# Altium footprint library adafruit.PCBLIB: 643 footprints (part 40 of 41)
Each footprint in its own frame and in the unit in brackets; x right, y up, seen from the top. Pads: shape width x height; smd on the part's side, far side on the other; paste and mask are expansions set on the pad; w line width, h text height; cw(c..) or ccw(c..) is an arc to the next point about the centre after c.
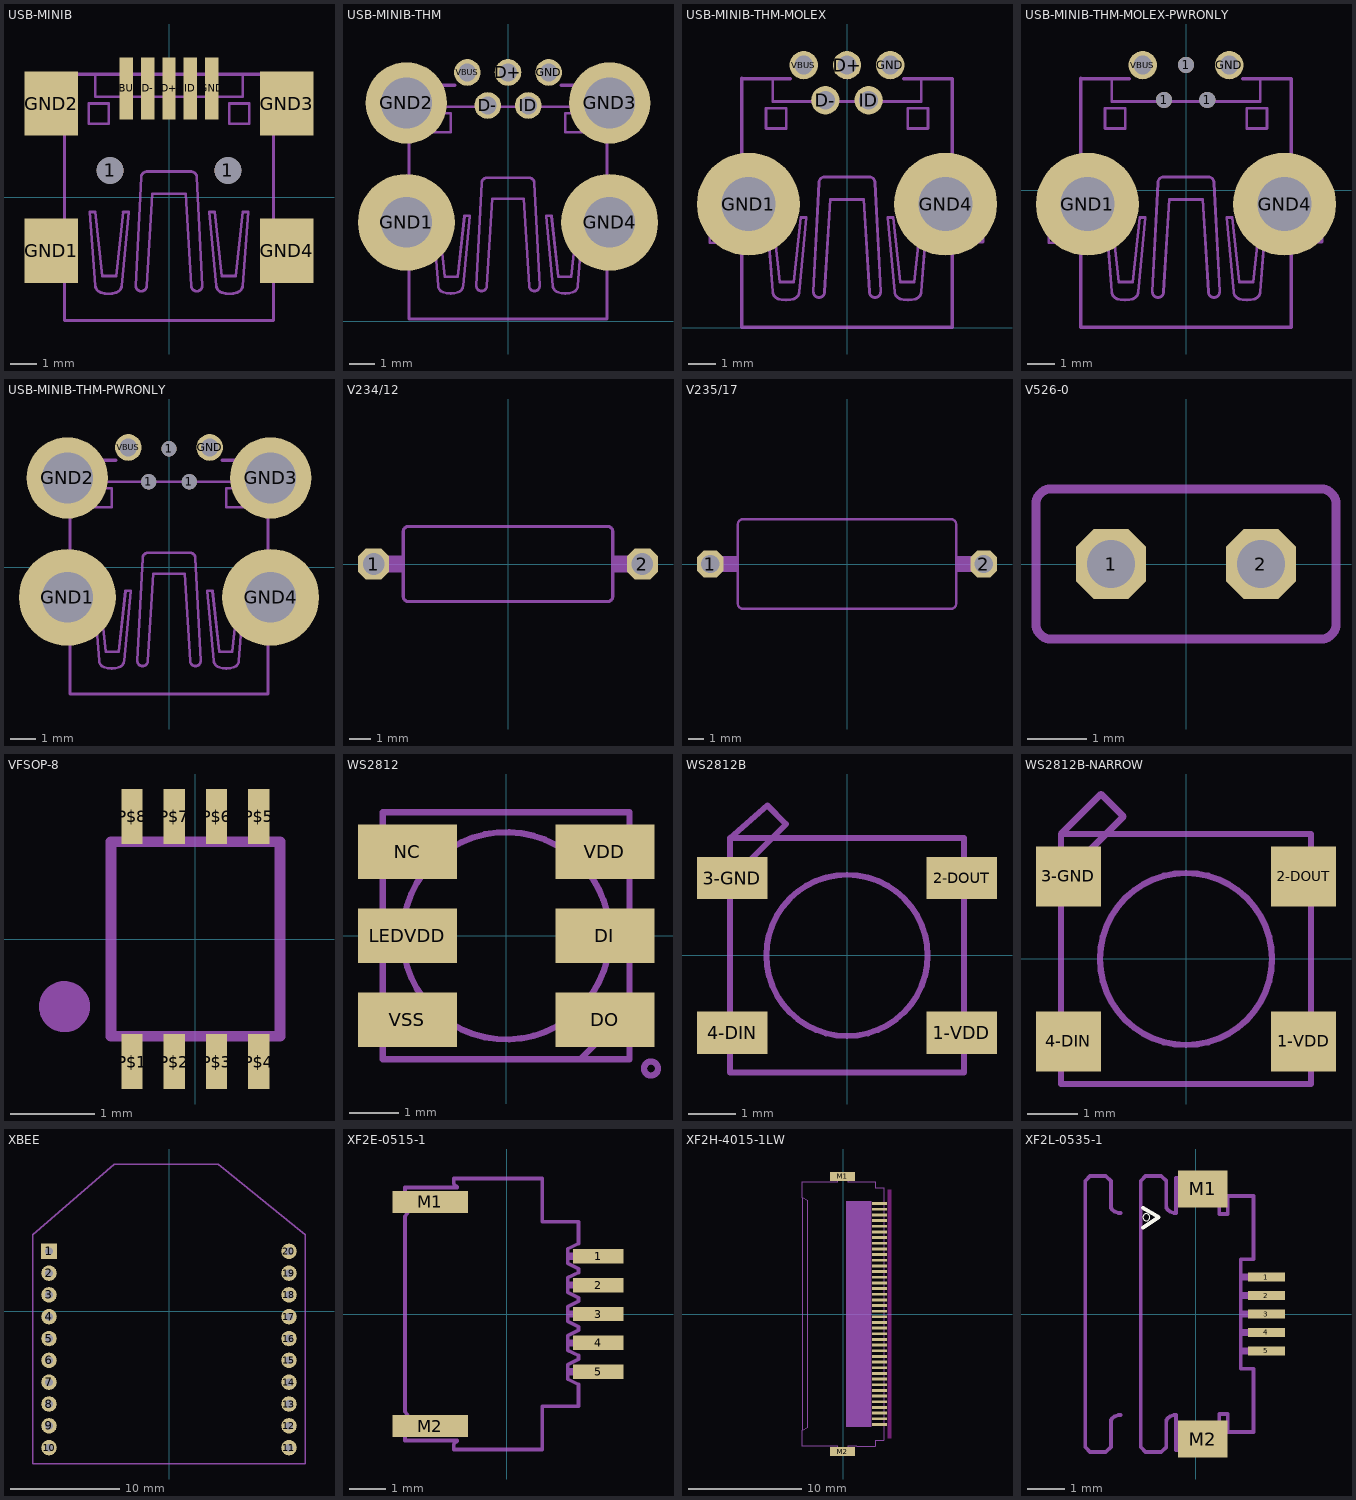
[diagram p39: the footprints below, top view; thin cyan lines are the x and y axes]

## USB-MINIB [mm]
pads (11):
  round 1 hole 1: 1(-2.2,1) 1(2.2,1)
  rect 0.5x2.308 smd: D+(0,4.064) D-(-0.8,4.064) GND(1.6,4.064) ID(0.8,4.064) VBUS(-1.6,4.064)
  rect 2x2.4 smd: GND1(-4.4,-2) GND2(-4.4,3.5) GND3(4.4,3.5) GND4(4.4,-2)
Mechanical 2:
  lines w0.127: -3.9,-4.6 3.9,-4.6 ; -3.9,-0.6 -3.9,2.1 ; -3.9,4.6 3.9,4.6 ; -3.2,4.6 -2.1,4.6 ; 2.1,4.6 3.2,4.6 ; 3.9,-0.6 3.9,2.1
Mechanical 18:
  lines w0.102: -5.08,-2.67 -5.08,-2.32 ccw(c-5.08,-2.02) -5.08,-1.72 -5.08,-1.32 ; -5.08,2.87 -5.08,3.22 ccw(c-5.08,3.52) -5.08,3.82 -5.08,4.22 ; -5.06,-2.679 -3.91,-2.679 ; -5.06,-1.301 -3.91,-1.301 ; -5.06,2.861 -3.91,2.861 ; -5.06,4.239 -3.91,4.239 ; -2.75,4.5 -2.75,3.75 2.75,3.75 2.75,4.5 ; -1.038,-3.506 cw(c-1.038,-3.299) -1.246,-3.298 -1.038,0.751 cw(c-0.819,0.739) -0.831,0.958 0.83,0.958 cw(c0.818,0.739) 1.038,0.751 1.246,-3.298 cw(c1.038,-3.299) 1.038,-3.506 cw(c1.038,-3.298) 0.83,-3.298 0.623,0.128 -0.623,0.128 -0.831,-3.298 cw(c-1.038,-3.299) -1.038,-3.506 ; 3.88,-2.659 5.03,-2.659 ; 3.88,-1.281 5.03,-1.281 ; 3.88,2.881 5.03,2.881 ; 3.88,4.259 5.03,4.259 ; 5.05,-2.64 5.05,-2.24 cw(c5.05,-1.94) 5.05,-1.64 5.05,-1.29 ; 5.05,2.9 5.05,3.3 cw(c5.05,3.6) 5.05,3.9 5.05,4.25 ; -3,2.75 -2.25,2.75 -2.25,3.5 -3,3.5 -3,2.75 ; -2.959,-0.547 -2.751,-3.298 ccw(c-2.457,-3.276) -2.544,-3.558 ccw(c-2.258,-2.627) -1.973,-3.558 ccw(c-2.059,-3.276) -1.765,-3.298 -1.505,-0.547 -1.713,-0.547 -1.973,-2.935 -2.492,-2.935 -2.751,-0.547 -2.959,-0.547 ; 1.505,-0.547 1.765,-3.298 ccw(c2.059,-3.276) 1.973,-3.558 ccw(c2.258,-2.627) 2.544,-3.558 ccw(c2.457,-3.276) 2.751,-3.298 2.959,-0.547 2.751,-0.547 2.492,-2.935 1.973,-2.935 1.713,-0.547 1.505,-0.547 ; 2.25,2.75 2.25,3.5 3,3.5 3,2.75 2.25,2.75
  lines w0.127: -3.9,-4.6 -3.9,-2.7 ; -3.9,-1.29 -3.9,2.81 ; -3.9,4.25 -3.9,4.6 ; 3.9,-4.6 3.9,-2.7 ; 3.9,-1.24 3.9,2.86 ; 3.9,4.3 3.9,4.6

## USB-MINIB-THM [mm]
pads (9):
  round 1.05 hole 0.7: D+(0,9.8) D-(-0.8,8.5) GND(1.6,9.8) ID(0.8,8.5) VBUS(-1.6,9.8)
  round 3.81 hole 2: GND1(-4,3.9) GND4(4,3.9)
  round 3.2 hole 2: GND2(-4,8.6) GND3(4,8.6)
Mechanical 2:
  lines w0.102: -1.038,1.194 -1.038,1.194
  lines w0.127: -3.9,0.1 3.9,0.1 ; -3.9,4.1 -3.9,6.8 ; -3.2,9.3 -2.1,9.3 ; 2.1,9.3 3.2,9.3 ; 3.9,4.7 3.9,6.8
Mechanical 18:
  lines w0.102: -5.08,3.23 -5.08,3.58 ccw(c-5.08,3.88) -5.08,4.18 -5.08,4.58 ; -5.08,7.57 -5.08,7.92 ccw(c-5.08,8.22) -5.08,8.52 -5.08,8.92 ; -5.06,3.221 -3.91,3.221 ; -5.06,4.599 -3.91,4.599 ; -5.06,7.561 -3.91,7.561 ; -5.06,8.939 -3.91,8.939 ; -2.75,9.2 -2.75,8.45 2.75,8.45 2.75,9.2 ; -1.038,1.194 cw(c-1.038,1.401) -1.246,1.402 -1.038,5.451 cw(c-0.819,5.439) -0.831,5.658 0.83,5.658 cw(c0.818,5.439) 1.038,5.451 1.246,1.402 cw(c1.038,1.401) 1.038,1.194 cw(c1.038,1.402) 0.83,1.402 0.623,4.828 -0.623,4.828 -0.831,1.402 cw(c-1.038,1.401) -1.038,1.194 ; 3.88,3.241 5.03,3.241 ; 3.88,4.619 5.03,4.619 ; 3.88,7.581 5.03,7.581 ; 3.88,8.959 5.03,8.959 ; 5.05,3.26 5.05,3.66 cw(c5.05,3.96) 5.05,4.26 5.05,4.61 ; 5.05,7.6 5.05,8 cw(c5.05,8.3) 5.05,8.6 5.05,8.95 ; -3,7.45 -2.25,7.45 -2.25,8.2 -3,8.2 -3,7.45 ; -2.959,4.153 -2.751,1.402 ccw(c-2.457,1.424) -2.544,1.142 ccw(c-2.258,2.073) -1.973,1.142 ccw(c-2.059,1.424) -1.765,1.402 -1.505,4.153 -1.713,4.153 -1.973,1.765 -2.492,1.765 -2.751,4.153 -2.959,4.153 ; 1.505,4.153 1.765,1.402 ccw(c2.059,1.424) 1.973,1.142 ccw(c2.258,2.073) 2.544,1.142 ccw(c2.457,1.424) 2.751,1.402 2.959,4.153 2.751,4.153 2.492,1.765 1.973,1.765 1.713,4.153 1.505,4.153 ; 2.25,7.45 2.25,8.2 3,8.2 3,7.45 2.25,7.45
  lines w0.127: -3.9,0.1 -3.9,3.2 ; -3.9,4.61 -3.9,7.51 ; -3.9,8.95 -3.9,9.3 ; 3.9,0.1 3.9,3.2 ; 3.9,4.66 3.9,7.56 ; 3.9,9 3.9,9.3

## USB-MINIB-THM-MOLEX [mil]
pads (7):
  round 41.34 hole 27.56: D+(0,382.68) D-(-31.5,331.5) GND(62.99,382.68) ID(31.5,331.5) VBUS(-62.99,382.68)
  round 150 hole 78.74: GND1(-143.7,179.92) GND4(143.7,179.92)
Mechanical 2:
  lines w4: -40.88,43.85 -40.87,43.85
  lines w5: -153.54,0.79 153.54,0.79 ; -153.54,158.27 -153.54,264.57 ; -153.54,362.99 -82.68,362.99 ; 82.68,362.99 153.54,362.99 ; 153.54,181.89 153.54,264.57
Mechanical 18:
  lines w4: -200,124.02 -200,137.8 ccw(c-200,149.61) -200,161.42 -200,177.17 ; -199.21,123.65 -153.94,123.65 ; -199.21,177.92 -153.94,177.92 ; -108.27,359.06 -108.27,329.53 108.27,329.53 108.27,359.06 ; -40.88,43.85 cw(c-40.88,52.02) -49.05,52.03 -40.88,211.45 cw(c-32.23,210.97) -32.7,219.62 32.69,219.62 cw(c32.22,210.97) 40.87,211.45 49.04,52.03 cw(c40.87,52.02) 40.87,43.85 cw(c40.87,52.03) 32.69,52.03 24.52,186.92 -24.54,186.92 -32.7,52.03 cw(c-40.88,52.02) -40.87,43.85 ; 152.76,124.44 198.03,124.44 ; 152.76,178.72 198.03,178.72 ; 198.82,125.2 198.82,140.94 cw(c198.82,152.75) 198.82,164.57 198.82,178.35 ; -118.11,290.16 -88.58,290.16 -88.58,319.69 -118.11,319.69 -118.11,290.16 ; -116.5,160.35 -108.32,52.03 ccw(c-96.75,52.91) -100.15,41.81 ccw(c-88.91,78.46) -77.67,41.81 ccw(c-81.07,52.91) -69.49,52.03 -59.27,160.35 -67.45,160.35 -77.67,66.33 -98.11,66.33 -108.32,160.35 -116.5,160.35 ; 59.26,160.35 69.48,52.03 ccw(c81.06,52.91) 77.66,41.81 ccw(c88.9,78.46) 100.14,41.81 ccw(c96.74,52.91) 108.32,52.03 116.49,160.35 108.32,160.35 98.1,66.33 77.66,66.33 67.44,160.35 59.26,160.35 ; 88.58,290.16 88.58,319.69 118.11,319.69 118.11,290.16 88.58,290.16
  lines w5: -153.54,0.79 -153.54,122.83 ; -153.54,178.35 -153.54,363.39 ; 153.54,0.79 153.54,122.83 ; 153.54,180.32 153.54,361.42

## USB-MINIB-THM-MOLEX-PWRONLY [mil]
pads (7):
  round 23.62 hole 23.62: 1(-32,132) 1(0,183) 1(31,132)
  round 41.34 hole 27.56: GND(62.99,182.68) VBUS(-62.99,182.68)
  round 150 hole 78.74: GND1(-143.7,-20.08) GND4(143.7,-20.08)
Mechanical 2:
  lines w4: -40.88,-156.15 -40.87,-156.15
  lines w5: -153.54,-199.21 153.54,-199.21 ; -153.54,-41.73 -153.54,64.57 ; -153.54,162.99 -82.68,162.99 ; 82.68,162.99 153.54,162.99 ; 153.54,-18.11 153.54,64.57
Mechanical 18:
  lines w4: -200,-75.98 -200,-62.2 ccw(c-200,-50.39) -200,-38.58 -200,-22.83 ; -199.21,-76.35 -153.94,-76.35 ; -199.21,-22.08 -153.94,-22.08 ; -108.27,159.06 -108.27,129.53 108.27,129.53 108.27,159.06 ; -40.88,-156.15 cw(c-40.88,-147.97) -49.05,-147.97 -40.88,11.45 cw(c-32.23,10.97) -32.7,19.62 32.69,19.62 cw(c32.22,10.97) 40.87,11.45 49.04,-147.97 cw(c40.87,-147.97) 40.87,-156.15 cw(c40.87,-147.97) 32.69,-147.97 24.52,-13.08 -24.54,-13.08 -32.7,-147.97 cw(c-40.88,-147.97) -40.87,-156.15 ; 152.76,-75.56 198.03,-75.56 ; 152.76,-21.28 198.03,-21.28 ; 198.82,-74.8 198.82,-59.06 cw(c198.82,-47.24) 198.82,-35.43 198.82,-21.65 ; -118.11,90.16 -88.58,90.16 -88.58,119.69 -118.11,119.69 -118.11,90.16 ; -116.5,-39.65 -108.32,-147.97 ccw(c-96.75,-147.09) -100.15,-158.19 ccw(c-88.91,-121.54) -77.67,-158.19 ccw(c-81.07,-147.09) -69.49,-147.97 -59.27,-39.65 -67.45,-39.65 -77.67,-133.67 -98.11,-133.67 -108.32,-39.65 -116.5,-39.65 ; 59.26,-39.65 69.48,-147.97 ccw(c81.06,-147.09) 77.66,-158.19 ccw(c88.9,-121.54) 100.14,-158.19 ccw(c96.74,-147.09) 108.32,-147.97 116.49,-39.65 108.32,-39.65 98.1,-133.67 77.66,-133.67 67.44,-39.65 59.26,-39.65 ; 88.58,90.16 88.58,119.69 118.11,119.69 118.11,90.16 88.58,90.16
  lines w5: -153.54,-199.21 -153.54,-77.17 ; -153.54,-21.65 -153.54,163.39 ; 153.54,-199.21 153.54,-77.17 ; 153.54,-19.69 153.54,161.42

## USB-MINIB-THM-PWRONLY [mm]
pads (9):
  round 0.6 hole 0.6: 1(-0.8,3.37) 1(0,4.67) 1(0.8,3.37)
  round 1.05 hole 0.7: GND(1.6,4.72) VBUS(-1.6,4.72)
  round 3.81 hole 2: GND1(-4,-1.18) GND4(4,-1.18)
  round 3.2 hole 2: GND2(-4,3.52) GND3(4,3.52)
Mechanical 2:
  lines w0.102: -1.038,-3.886 -1.038,-3.886
  lines w0.127: -3.9,-4.98 3.9,-4.98 ; -3.9,-0.98 -3.9,1.72 ; -3.2,4.22 -2.1,4.22 ; 2.1,4.22 3.2,4.22 ; 3.9,-0.38 3.9,1.72
Mechanical 18:
  lines w0.102: -5.08,-1.85 -5.08,-1.5 ccw(c-5.08,-1.2) -5.08,-0.9 -5.08,-0.5 ; -5.08,2.49 -5.08,2.84 ccw(c-5.08,3.14) -5.08,3.44 -5.08,3.84 ; -5.06,-1.859 -3.91,-1.859 ; -5.06,-0.481 -3.91,-0.481 ; -5.06,2.481 -3.91,2.481 ; -5.06,3.859 -3.91,3.859 ; -2.75,4.12 -2.75,3.37 2.75,3.37 2.75,4.12 ; -1.038,-3.886 cw(c-1.038,-3.679) -1.246,-3.678 -1.038,0.371 cw(c-0.819,0.359) -0.831,0.578 0.83,0.578 cw(c0.818,0.359) 1.038,0.371 1.246,-3.678 cw(c1.038,-3.679) 1.038,-3.886 cw(c1.038,-3.678) 0.83,-3.678 0.623,-0.252 -0.623,-0.252 -0.831,-3.678 cw(c-1.038,-3.679) -1.038,-3.886 ; 3.88,-1.839 5.03,-1.839 ; 3.88,-0.461 5.03,-0.461 ; 3.88,2.501 5.03,2.501 ; 3.88,3.879 5.03,3.879 ; 5.05,-1.82 5.05,-1.42 cw(c5.05,-1.12) 5.05,-0.82 5.05,-0.47 ; 5.05,2.52 5.05,2.92 cw(c5.05,3.22) 5.05,3.52 5.05,3.87 ; -3,2.37 -2.25,2.37 -2.25,3.12 -3,3.12 -3,2.37 ; -2.959,-0.927 -2.751,-3.678 ccw(c-2.457,-3.656) -2.544,-3.938 ccw(c-2.258,-3.007) -1.973,-3.938 ccw(c-2.059,-3.656) -1.765,-3.678 -1.505,-0.927 -1.713,-0.927 -1.973,-3.315 -2.492,-3.315 -2.751,-0.927 -2.959,-0.927 ; 1.505,-0.927 1.765,-3.678 ccw(c2.059,-3.656) 1.973,-3.938 ccw(c2.258,-3.007) 2.544,-3.938 ccw(c2.457,-3.656) 2.751,-3.678 2.959,-0.927 2.751,-0.927 2.492,-3.315 1.973,-3.315 1.713,-0.927 1.505,-0.927 ; 2.25,2.37 2.25,3.12 3,3.12 3,2.37 2.25,2.37
  lines w0.127: -3.9,-4.98 -3.9,-1.88 ; -3.9,-0.47 -3.9,2.43 ; -3.9,3.87 -3.9,4.22 ; 3.9,-4.98 3.9,-1.88 ; 3.9,-0.42 3.9,2.48 ; 3.9,3.92 3.9,4.22

## V234/12 [mil]
pads (2):
  oct 58.09x58.09 hole 40: 1(-250,0) 2(250,0)
Mechanical 2:
  rectangle: 195,-16 213,16
  rectangle: -213,-16 -195,16
  lines w6: -195,-60 ccw(c-185,-60) -185,-70 185,-70 ccw(c185,-60) 195,-60 195,60 ccw(c185,60) 185,70 -185,70 ccw(c-185,60) -195,60 -195,-60
Mechanical 18:
  lines w32: -250,0 -215,0 ; 215,0 250,0

## V235/17 [mil]
pads (2):
  oct 68.26x68.26 hole 47: 1(-350,0) 2(350,0)
Mechanical 2:
  rectangle: 280,-20 305,20
  rectangle: -305,-20 -280,20
  lines w6: -280,-100 -280,100 cw(c-265,100) -265,115 265,115 cw(c265,100) 280,100 280,-100 cw(c265,-100) 265,-115 -265,-115 cw(c-265,-100) -280,-100
Mechanical 18:
  lines w40: -350,0 -310,0 ; 310,0 350,0

## V526-0 [mil]
pads (2):
  oct 46.48x46.48 hole 32: 1(-50,0) 2(50,0)
Mechanical 2:
  lines w6: -100,-40 ccw(c-90,-40) -90,-50 90,-50 ccw(c90,-40) 100,-40 100,40 ccw(c90,40) 90,50 -90,50 ccw(c-90,40) -100,40 -100,-40

## VFSOP-8 [mm]
pads (8):
  rect 0.25x0.65 smd: P$1(-0.75,-1.45) P$2(-0.25,-1.45) P$3(0.25,-1.45) P$4(0.75,-1.45) P$5(0.75,1.45) P$6(0.25,1.45) P$7(-0.25,1.45) P$8(-0.75,1.45)
Mechanical 2:
  circle w0.305: c-1.55,-0.8 r0.15
  lines w0.127: -1,-1.15 -1,1.15 ; 1,-1.15 1,1.15
Mechanical 18:
  rectangle: -0.35,-1.55 -0.15,-1.15
  rectangle: -0.85,-1.55 -0.65,-1.15
  rectangle: 0.15,-1.55 0.35,-1.15
  rectangle: 0.65,-1.55 0.85,-1.15
  rectangle: 0.65,1.15 0.85,1.55
  rectangle: 0.15,1.15 0.35,1.55
  rectangle: -0.35,1.15 -0.15,1.55
  rectangle: -0.85,1.15 -0.65,1.55
  lines w0.127: -1,-1.15 1,-1.15 1,1.15 -1,1.15 -1,-1.15

## WS2812 [mm]
pads (6):
  rect 2x1.1 smd: DI(2,0) DO(2,-1.7) LEDVDD(-2,0) NC(-2,1.7) VDD(2,1.7) VSS(-2,-1.7)
Mechanical 2:
  circle w0.127: c2.934,-2.688 r0.141
  circle w0.127: c0,0 r2.1
  lines w0.127: 1.5,-2.5 2.5,-2.5 2.5,-1.5 ; 1.5,-2.5 -2.5,-2.5 -2.5,2.5 2.5,2.5 2.5,-1.5 ; 1.5,-2.5 2.5,-1.5

## WS2812B [mm]
pads (4):
  rect 1.5x0.9 smd: 1-VDD(2.45,-1.65) 2-DOUT(2.45,1.65) 3-GND(-2.45,1.65) 4-DIN(-2.45,-1.65)
Mechanical 2:
  circle w0.127: c0,0 r1.72
  lines w0.127: -2.5,1.6 -2.5,-2.5 2.5,-2.5 2.5,2.5 -1.6,2.5 ; -2.5,1.6 -2.5,2.5 ; -2.5,1.6 -1.6,2.5 ; -2.5,2.5 -1.6,2.5 ; -2.5,2.5 -1.7,3.2 -1.3,2.8 -1.6,2.5

## WS2812B-NARROW [mm]
pads (4):
  rect 1.3x1.2 smd: 1-VDD(2.35,-1.65) 2-DOUT(2.35,1.65) 3-GND(-2.35,1.65) 4-DIN(-2.35,-1.65)
Mechanical 2:
  circle w0.127: c0,0 r1.72
  lines w0.127: -2.5,1.6 -2.5,-2.5 2.5,-2.5 2.5,2.5 -1.6,2.5 ; -2.5,1.6 -2.5,2.5 ; -2.5,1.6 -1.6,2.5 ; -2.5,2.5 -1.6,2.5 ; -2.5,2.5 -1.7,3.3 -1.25,2.85 -1.6,2.5

## XBEE [mil]
pads (20):
  rect 56x56 hole 27.56: 1(-433.07,216.54)
  round 56 hole 27.56: 2(-433.07,137.8) 3(-433.07,59.06) 4(-433.07,-19.69) 5(-433.07,-98.43) 6(-433.07,-177.17) 7(-433.07,-255.91) 8(-433.07,-334.65) 9(-433.07,-413.39) 10(-433.07,-492.13) 11(433.07,-492.13) 12(433.07,-413.39) 13(433.07,-334.65) 14(433.07,-255.91) 15(433.07,-177.17) 16(433.07,-98.43) 17(433.07,-19.69) 18(433.07,59.06) 19(433.07,137.8) 20(433.07,216.54)
Mechanical 2:
  lines w5: -492.13,-551.18 492.13,-551.18 492.13,275.59 177.17,531.5 -196.85,531.5 -492.13,275.59 -492.13,-551.18

## XF2E-0515-1 [mil]
pads (7):
  rect 55.12x15.75 smd: 1(100,62.99) 2(100,31.5) 3(100,0) 4(100,-31.5) 5(100,-62.99)
  rect 82.68x23.62 smd: M1(-83.07,122.05) M2(-83.07,-122.05)
Mechanical 2:
  lines w4: -110.63,-137.8 -53.54,-137.8 -57.48,-141.73 -57.48,-147.64 38.98,-147.64 38.98,-100.39 78.35,-100.39 78.35,-76.77 66.54,-70.87 66.54,-55.12 78.35,-49.21 78.35,-45.28 66.54,-39.37 66.54,-23.62 78.35,-17.72 78.35,-13.78 66.54,-7.87 66.54,7.87 78.35,13.78 78.35,17.72 66.54,23.62 66.54,39.37 78.35,45.28 78.35,49.21 66.54,55.12 66.54,70.87 78.35,76.77 78.35,100.39 38.98,100.39 38.98,147.64 -57.48,147.64 -57.48,141.73 -53.54,137.8 -110.63,137.8 ; -110.63,-106.3 -110.63,106.3
Mechanical 18:
  rectangle: 68.5,59.06 107.87,66.93
  rectangle: 68.5,27.56 107.87,35.43
  rectangle: 68.5,-3.94 107.87,3.94
  rectangle: 68.5,-35.43 107.87,-27.56
  rectangle: 68.5,-66.93 107.87,-59.06
  lines w4: -110.63,-137.8 -110.63,-116.14 -102.76,-116.14 -110.63,-106.3 ; -110.63,106.3 -102.76,116.14 -110.63,116.14 -110.63,137.8

## XF2H-4015-1LW [mil]
pads (42):
  rect 51.18x9.84 smd mask-25.59: 1(125,383.86) 2(125,364.17) 3(125,344.49) 4(125,324.8) 5(125,305.12) 6(125,285.43) 7(125,265.75) 8(125,246.06) 9(125,226.38) 10(125,206.69) 11(125,187.01) 12(125,167.32) 13(125,147.64) 14(125,127.95) 15(125,108.27) 16(125,88.58) 17(125,68.9) 18(125,49.21) 19(125,29.53) 20(125,9.84) 21(125,-9.84) 22(125,-29.53) 23(125,-49.21) 24(125,-68.9) 25(125,-88.58) 26(125,-108.27) 27(125,-127.95) 28(125,-147.64) 29(125,-167.32) 30(125,-187.01) 31(125,-206.69) 32(125,-226.38) 33(125,-246.06) 34(125,-265.75) 35(125,-285.43) 36(125,-305.12) 37(125,-324.8) 38(125,-344.49) 39(125,-364.17) 40(125,-383.86)
  rect 86.61x31.5 smd: M1(-2.95,478.35) M2(-2.95,-478.35)
Top Solder:
  rectangle: 97.44,376.97 152.56,390.75
  rectangle: 97.44,357.28 152.56,371.06
  rectangle: 97.44,337.6 152.56,351.38
  rectangle: 97.44,317.91 152.56,331.69
  rectangle: 97.44,298.23 152.56,312.01
  rectangle: 97.44,278.54 152.56,292.32
  rectangle: 97.44,258.86 152.56,272.64
  rectangle: 97.44,239.17 152.56,252.95
  rectangle: 97.44,219.49 152.56,233.27
  rectangle: 97.44,199.8 152.56,213.58
  rectangle: 97.44,180.12 152.56,193.9
  rectangle: 97.44,160.43 152.56,174.21
  rectangle: 97.44,140.75 152.56,154.53
  rectangle: 97.44,121.06 152.56,134.84
  rectangle: 97.44,101.38 152.56,115.16
  rectangle: 97.44,81.69 152.56,95.47
  rectangle: 97.44,62.01 152.56,75.79
  rectangle: 97.44,42.32 152.56,56.1
  rectangle: 97.44,22.64 152.56,36.42
  rectangle: 97.44,2.95 152.56,16.73
  rectangle: 97.44,-16.73 152.56,-2.95
  rectangle: 97.44,-36.42 152.56,-22.64
  rectangle: 97.44,-56.1 152.56,-42.32
  rectangle: 97.44,-75.79 152.56,-62.01
  rectangle: 97.44,-95.47 152.56,-81.69
  rectangle: 97.44,-115.16 152.56,-101.38
  rectangle: 97.44,-134.84 152.56,-121.06
  rectangle: 97.44,-154.53 152.56,-140.75
  rectangle: 97.44,-174.21 152.56,-160.43
  rectangle: 97.44,-193.9 152.56,-180.12
  rectangle: 97.44,-213.58 152.56,-199.8
  rectangle: 97.44,-233.27 152.56,-219.49
  rectangle: 97.44,-252.95 152.56,-239.17
  rectangle: 97.44,-272.64 152.56,-258.86
  rectangle: 97.44,-292.32 152.56,-278.54
  rectangle: 97.44,-312.01 152.56,-298.23
  rectangle: 97.44,-331.69 152.56,-317.91
  rectangle: 97.44,-351.38 152.56,-337.6
  rectangle: 97.44,-371.06 152.56,-357.28
  rectangle: 97.44,-390.75 152.56,-376.97
Keep-Out Layer:
  rectangle: 152.56,-433.07 167.32,433.07
Mechanical 2:
  lines w4: -52.17,-460.63 -142.72,-460.63 -142.72,-403.54 ; -52.17,460.63 -142.72,460.63 -142.72,403.54 ; 46.26,-460.63 111.22,-460.63 111.22,-438.98 140.75,-438.98 140.75,-393.7 ; 46.26,460.63 111.22,460.63 111.22,438.98 140.75,438.98 140.75,393.7 ; -142.72,-403.54 -125,-393.7 -125,393.7 -142.72,403.54 ; -142.72,-403.54 -142.72,403.54
Mechanical 12:
  rectangle: 8.86,-393.7 97.44,393.7
Mechanical 18:
  lines w4: -52.17,-460.63 -20.67,-460.63 -20.67,-472.44 14.76,-472.44 14.76,-460.63 46.26,-460.63 ; -52.17,460.63 -20.67,460.63 -20.67,472.44 14.76,472.44 14.76,460.63 46.26,460.63 ; 140.75,-393.7 140.75,393.7

## XF2L-0535-1 [mm]
pads (7):
  rect 1x0.25 smd mask-0.5: 1(1.905,1) 2(1.905,0.5) 3(1.905,0) 4(1.905,-0.5) 5(1.905,-1)
  rect 1.34x1 smd: M1(0.18,3.388) M2(0.18,-3.388)
Top Overlay:
  circle w0: c-1.341,2.617 r0.095
  lines w0.102: -1.441,2.332 -1.005,2.617 -1.441,2.872
Top Solder:
  rectangle: 1.355,0.825 2.455,1.175
  rectangle: 1.355,0.325 2.455,0.675
  rectangle: 1.355,-0.175 2.455,0.175
  rectangle: 1.355,-0.675 2.455,-0.325
  rectangle: 1.355,-1.175 2.455,-0.825
Mechanical 2:
  lines w0.102: -2.04,-2.731 ccw(c-2.04,-3.069) -2.253,-2.806 ccw(c-2.173,-2.906) -2.301,-2.906 -2.301,-3.598 -2.438,-3.735 -2.865,-3.735 -2.995,-3.6 -2.995,3.6 -2.865,3.735 -2.438,3.735 -2.301,3.598 -2.301,2.906 ccw(c-2.173,2.906) -2.253,2.806 ccw(c-2.04,3.069) -2.04,2.731 ; -0.54,-3.683 -0.54,-2.73 ccw(c-0.54,-3.069) -0.754,-2.806 ccw(c-0.673,-2.906) -0.801,-2.906 -0.801,-3.598 -0.939,-3.735 -1.365,-3.735 -1.495,-3.6 -1.495,3.6 -1.365,3.735 -0.939,3.735 -0.801,3.598 -0.801,2.906 ccw(c-0.673,2.906) -0.754,2.806 ccw(c-0.54,3.069) -0.54,2.731 ; 1.538,1.479 1.213,1.479 1.213,-1.479 1.559,-1.479 1.559,-3.19 ; 1.559,1.479 1.559,3.19
Mechanical 18:
  rectangle: 0.105,-3.7 0.805,-3.175
  rectangle: -0.445,-3.7 0.105,-2.9
  rectangle: 0.105,-3.7 0.805,-3.175
  rectangle: -0.445,-3.7 0.105,-2.9
  rectangle: 0.105,3.175 0.805,3.7
  rectangle: -0.445,2.9 0.105,3.7
  rectangle: 1.255,0.9 1.98,1.1
  rectangle: 1.255,0.4 1.98,0.6
  rectangle: 1.255,-0.1 1.98,0.1
  rectangle: 1.255,-0.6 1.98,-0.4
  rectangle: 1.255,-1.1 1.98,-0.9
  lines w0.102: -0.54,-3.683 0.512,-3.683 0.512,-3.2 -0.019,-3.2 -0.019,-3.053 0.63,-3.053 0.63,-2.707 0.858,-2.707 0.858,-3.19 1.559,-3.19 ; -0.54,2.73 -0.54,3.683 0.512,3.683 0.512,3.2 -0.019,3.2 -0.019,3.053 0.63,3.053 0.63,2.707 0.858,2.707 0.858,3.19 1.559,3.19